# EAGLE library part MCP2200 (library SteveMarple)
MCP2200 Microchip USB-UART interface.
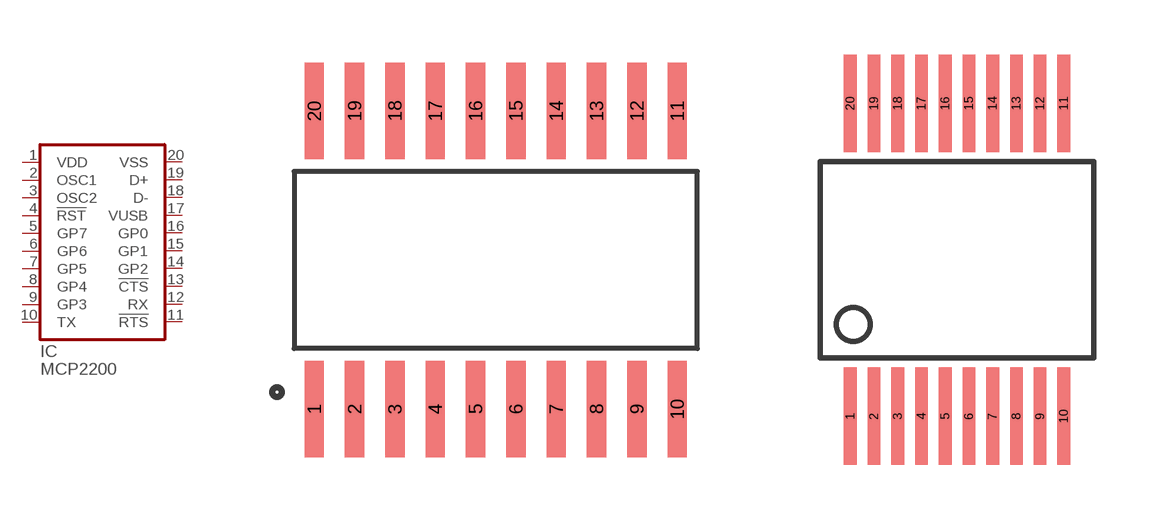
[diagram p26: symbol with the pads of SO20; footprints SO20, SSOP20-HAND]

Designator prefix IC

## MCP2200  [SO20]
1  VDD  pwr
2  OSC1
3  OSC2
4  !RST
5  GP7
6  GP6
7  GP5
8  GP4
9  GP3
10  TX
11  !RTS
12  RX
13  !CTS
14  GP2
15  GP1
16  GP0
17  VUSB
18  D-
19  D+
20  VSS  pwr

## MCP2200SSOP20-HAND  [SSOP20-HAND]
Pads as for SO20

## Footprint SO20 (pad centres in mm)
smd 0.61 x 3.048: 1 -5.715,-4.699; 2 -4.445,-4.699; 3 -3.175,-4.699; 4 -1.905,-4.699; 5 -0.635,-4.699; 6 0.635,-4.699; 7 1.905,-4.699; 8 3.175,-4.699; 9 4.445,-4.699; 10 5.715,-4.699; 11 5.715,4.699; 12 4.445,4.699; 13 3.175,4.699; 14 1.905,4.699; 15 0.635,4.699; 16 -0.635,4.699; 17 -1.905,4.699; 18 -3.175,4.699; 19 -4.445,4.699; 20 -5.715,4.699

## Footprint SSOP20-HAND (pad centres in mm)
smd 0.348 x 2.667: 1 -2.925,-4.291; 2 -2.275,-4.291; 3 -1.625,-4.291; 4 -0.975,-4.291; 5 -0.325,-4.291; 6 0.325,-4.291; 7 0.975,-4.291; 8 1.625,-4.291; 9 2.275,-4.291; 10 2.925,-4.291; 11 2.925,4.291; 12 2.275,4.291; 13 1.625,4.291; 14 0.975,4.291; 15 0.325,4.291; 16 -0.325,4.291; 17 -0.975,4.291; 18 -1.625,4.291; 19 -2.275,4.291; 20 -2.925,4.291